# EAGLE library part AS-ITM-00022 (library tinycircuits)
CONN HEADER 6POS UNSHD VERT T/H
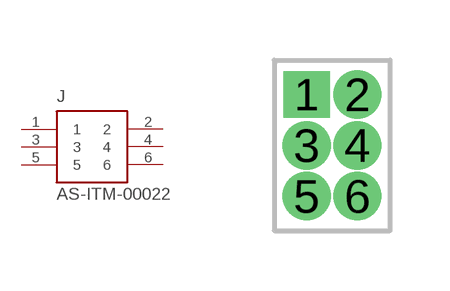
[diagram p7: symbol with the pads of 2X3_.05"_TH_HEADER; footprint 2X3_.05"_TH_HEADER]

Designator prefix J

## AS-ITM-00022 (PARTNO: AS-ITM-00022; VALUE: 20021111)  [2X3_.05"_TH_HEADER]
1  1
2  2
3  3
4  4
5  5
6  6

## Footprint 2X3_.05"_TH_HEADER (pad centres in mm)
drill 0.65 pad 1.016 square: 1 -0.635,1.27
drill 0.7 pad 1.016: 2 0.635,1.27; 3 -0.635,0; 4 0.635,0; 5 -0.635,-1.27; 6 0.635,-1.27